# EAGLE library part 39-28-1063 (library SamacSys_Parts)
6 way vertical PCB header,Mini-Fit Jr Molex MINI-FIT JR. Series, Series Number 5566, 4.2mm Pitch 6 Way 2 Row Straight PCB Header, Solder Termination, 9 A Source: Datasheet <https://www.molex.com/pdm_docs/sd/039281023_sd.pdf>
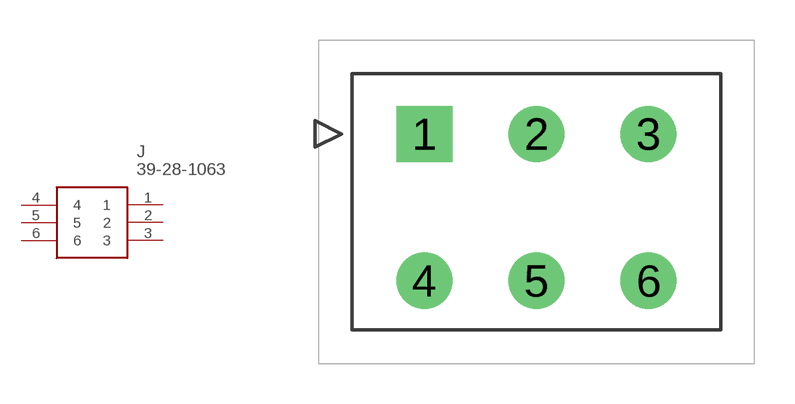
[diagram p186: symbol with the pads of 39-28-1063; footprint 39-28-1063]

Designator prefix J

## 39-28-1063 (DESCRIPTION: 6 way vertical PCB header,Mini-Fit Jr Molex MINI-FIT JR. Series, Series Number 5566, 4.2mm Pitch 6 Way 2 Row Straight PCB Header, Solder Termination, 9 A; HEIGHT: 12.8mm; MANUFACTURER_NAME: Molex; MANUFACTURER_PART_NUMBER: 39-28-1063; MOUSER_PART_NUMBER: 538-39-28-1063; MOUSER_PRICE-STOCK: https://www.mouser.co.uk/ProductDetail/Molex/39-28-1063?qs=LQQHZ4xw2XBs0rw8%252B79P%252Bg%3D%3D)  [39-28-1063]
1  1
2  2
3  3
4  4
5  5
6  6

## Footprint 39-28-1063 (pad centres in mm)
39-28-1063
drill 1.4 pad 1.75 square: 1 0,0
drill 1.4 pad 1.75: 2 4.2,0; 3 8.4,0; 4 0,-5.5; 5 4.2,-5.5; 6 8.4,-5.5